# Altium footprint library diode SS34.PcbLib: 1 footprints
Each footprint in its own frame and in the unit in brackets; x right, y up, seen from the top. Pads: shape width x height; smd on the part's side, far side on the other; paste and mask are expansions set on the pad; w line width, h text height; cw(c..) or ccw(c..) is an arc to the next point about the centre after c.
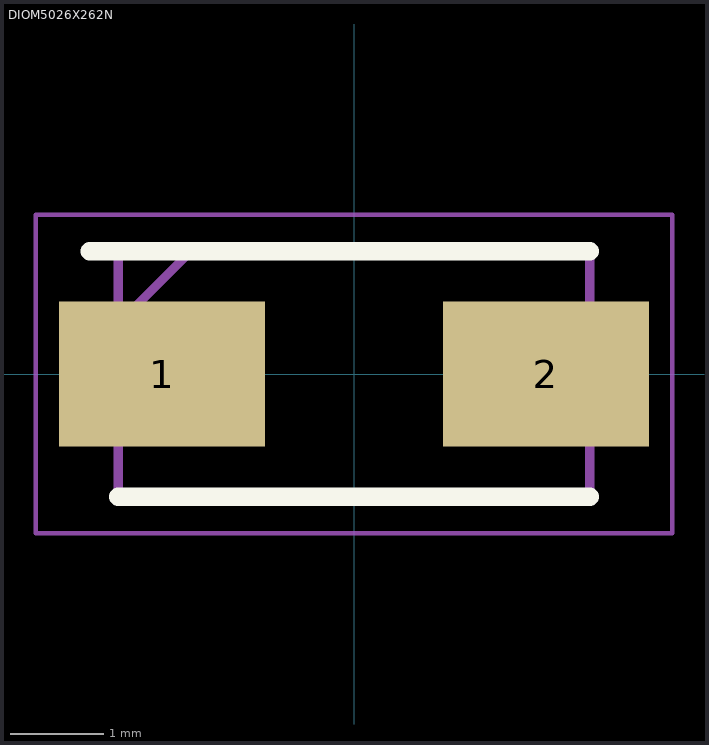
[diagram p0: the footprint, top view; thin cyan lines are the x and y axes]

## DIOM5026X262N [mm]
pads (2):
  rect 2.2x1.55 smd: 1(-2.05,0) 2(2.05,0)
Top Overlay:
  lines w0.2: -2.825,1.312 2.52,1.312 ; -2.52,-1.312 2.52,-1.312
Mechanical 13:
  lines w0.1: -2.52,0.538 -1.745,1.312 ; -2.52,-1.312 -2.52,1.312 2.52,1.312 2.52,-1.312 -2.52,-1.312
Mechanical 15:
  lines w0.05: -3.4,-1.7 -3.4,1.7 3.4,1.7 3.4,-1.7 -3.4,-1.7
3D body "SS34A.stp": height 2.62, standoff 0, extent -2.52,-1.312 2.52,1.312